# Altium footprint library BJT and FET.PcbLib: 2 footprints
Each footprint in its own frame and in the unit in brackets; x right, y up, seen from the top. Pads: shape width x height; smd on the part's side, far side on the other; paste and mask are expansions set on the pad; w line width, h text height; cw(c..) or ccw(c..) is an arc to the next point about the centre after c.
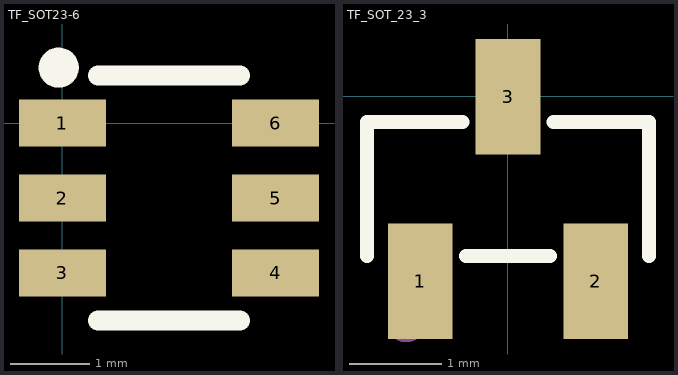
[diagram p0: the footprints below, top view; thin cyan lines are the x and y axes]

## TF_SOT23-6 [mm]
pads (6):
  rect 1.1x0.6 smd paste+0 mask+0.051: 1(0,0) 2(0,-0.95) 3(0,-1.9) 4(2.7,-1.9) 5(2.7,-0.95) 6(2.7,0)
Top Overlay:
  circle w0.254: c-0.047,0.701 r0.127
  lines w0.254: 0.45,-2.5 2.25,-2.5 ; 0.45,0.6 2.25,0.6
Mechanical 15:
  circle w0.2: c-0.05,0 r0.1
3D body "SOT23-6.step": height 1.1, standoff 0, extent 0.122,-2.44 2.622,0.56

## TF_SOT_23_3 [mm]
pads (3):
  rect 0.7x1.25 smd paste+0 mask+0.051: 1(-0.95,-2.006) 2(0.95,-2.006) 3(0,-0.006)
Top Overlay:
  lines w0.152: -1.526,-1.733 -1.526,-0.28 -0.495,-0.28 ; -0.455,-1.733 0.455,-1.733 ; 0.495,-0.28 1.526,-0.28 1.526,-1.733
Mechanical 15:
  circle w0.2: c-1.1,-2.466 r0.1
3D body "SOT23-3.step": height 1.1, standoff 0, extent -1.524,-2.291 1.474,0.209